# Altium schematic symbol library BSS138LT1G.Schlib: 1 symbol
Pins are listed as number, name and electrical type; pins without a type are passive.

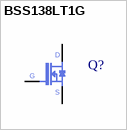
[diagram p0: symbol BSS138LT1G]

## BSS138LT1G
designator Q?  (value not drawn)
pins: 1 G, 2 D, 3 S